# EAGLE library part WE_FB_EFD25 (library kicker)
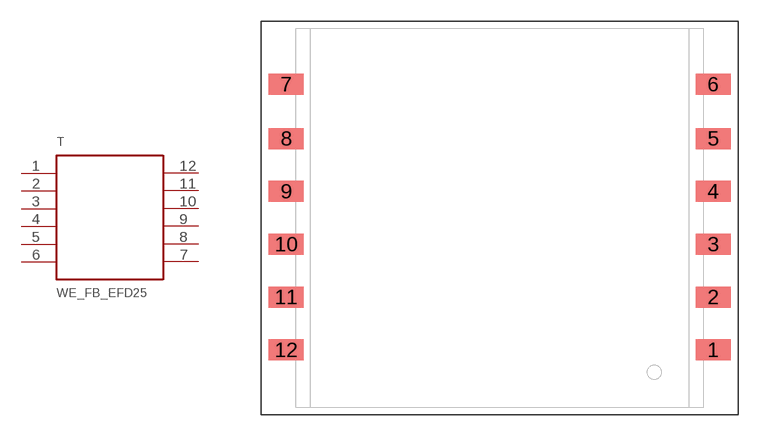
[diagram p5: symbol with the pads of WE_FB_EFD25; footprint WE_FB_EFD25]

Designator prefix T

## WE_FB_EFD25, WE_FB_EFD25-750310988 (MF: Würth Elektronik; MPN: 750310988)  [WE_FB_EFD25]
1  1
2  2
3  3
4  4
5  5
6  6
7  7
8  8
9  9
10  10
11  11
12  12

## Footprint WE_FB_EFD25 (pad centres in mm)
smd 2.5 x 1.5: 1 15.2,-9.4; 2 15.2,-5.64; 3 15.2,-1.88; 4 15.2,1.88; 5 15.2,5.64; 6 15.2,9.5; 7 -15.2,9.5; 8 -15.2,5.64; 9 -15.2,1.88; 10 -15.2,-1.88; 11 -15.2,-5.64; 12 -15.2,-9.4